# Altium footprint library Buck 18V D3 v2.PcbLib: 1 footprints
Each footprint in its own frame and in the unit in brackets; x right, y up, seen from the top. Pads: shape width x height; smd on the part's side, far side on the other; paste and mask are expansions set on the pad; w line width, h text height; cw(c..) or ccw(c..) is an arc to the next point about the centre after c.
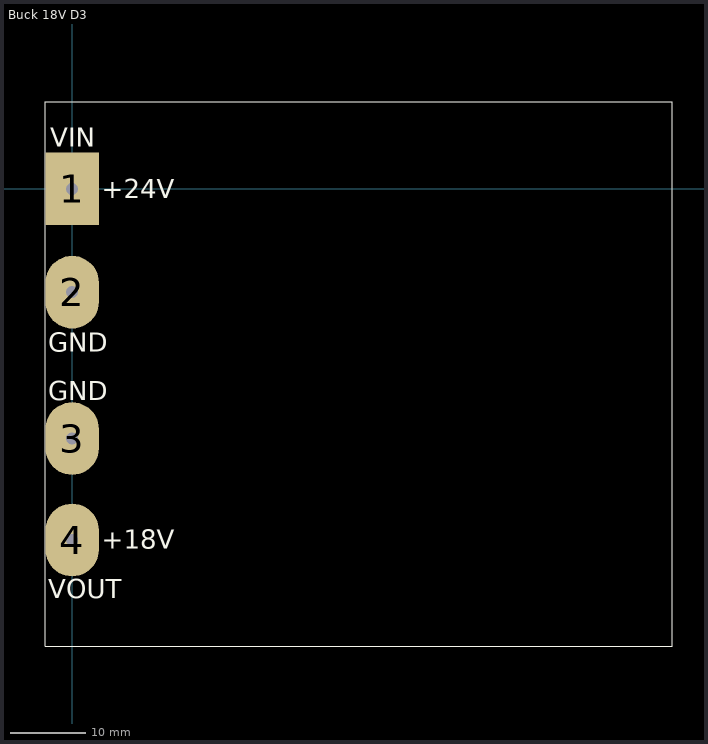
[diagram p0: the footprint, top view; thin cyan lines are the x and y axes]

## Buck 18V D3 [mil] "Buck 18V D3"
height 500
pads (4):
  rect 280x380 hole 63: 1(0,0)
  oval 280x380 hole 63: 2(0,-540) 3(0,-1305) 4(0,-1835)
Top Overlay:
  lines w5: -140,-2390 -140,455 3135,455 3135,-2390 -140,-2390
  text "GND" at -125,-850 h100
  text "GND" at -125,-1105 h100
  text "VOUT" at -125,-2140 h100
  text "+18V" at 155,-1880 h100
  text "+24V" at 155,-50 h100
  text "VIN" at -115,220 h100
3D body: height 191, standoff 190, extent -130,-1110 -55,-1000
3D body: height 191, standoff 190, extent 70,-1110 145,-1000
3D body: height 191, standoff 190, extent -30,-1110 45,-1000
3D body: height 192, standoff 190, extent 345.01,-344.99 1190,-325
3D body: height 192, standoff 190, extent 345.01,-214.99 1190,-195
3D body: height 269, standoff 190, extent 350.01,-219.99 450.01,-209.99
3D body: height 269, standoff 190, extent 455.01,-219.99 555.01,-209.99
3D body: height 269, standoff 190, extent 560.01,-219.99 660.01,-209.99
3D body: height 269, standoff 190, extent 665.01,-219.99 765.01,-209.99
3D body: height 269, standoff 190, extent 770.01,-219.99 870.01,-209.99
3D body: height 269, standoff 190, extent 875.01,-219.99 975.01,-209.99
3D body: height 269, standoff 190, extent 980.01,-219.99 1080.01,-209.99
3D body: height 269, standoff 190, extent 1085,-220 1185,-210
3D body: height 520, standoff 190, extent 560,-760 685,-345
3D body: height 520, standoff 190, extent 560,-190 685,225
3D body: height 192, standoff 190, extent 835.11,35.03 1035,234.98
3D body: height 192, standoff 190, extent 835.11,-89.96 1035,109.98
3D body: height 192, standoff 190, extent 835.11,-214.97 1035,-15.03
3D body: height 192, standoff 190, extent 1110.12,-239.96 1310.01,-40.02
3D body: height 192, standoff 190, extent 1110.12,-489.96 1310.01,-290.02
3D body: height 192, standoff 190, extent 835.11,-774.97 1035,-575.03
3D body: height 192, standoff 190, extent 835.11,-649.96 1035,-450.02
3D body: height 192, standoff 190, extent 835.11,-524.97 1035,-325.02
3D body: height 192, standoff 190, extent 1255.06,-1404.98 1355,-1305.01
3D body: height 192, standoff 190, extent 1255.06,-1828.98 1355,-1729.01
3D body: height 200, standoff 190, extent 1185,-1430 1360,-1400
3D body: height 200, standoff 190, extent 1365,-1430 1540,-1400
3D body: height 200, standoff 190, extent 1185,-1750 1360,-1720
3D body: height 200, standoff 190, extent 1365,-1750 1540,-1720
3D body: height 200, standoff 190, extent 2600,-1040 2800,-1010
3D body: height 200, standoff 190, extent 2610,-540 2810,-510
3D body: height 225, standoff 190, extent 1625,-1110 1635,-1060.01
3D body: height 225, standoff 190, extent 1564.99,-1110 1574.99,-1060.01
3D body: height 225, standoff 190, extent 1574.99,-1110 1625,-1060.01
3D body: height 225, standoff 190, extent 1625,-1020 1635,-970.01
3D body: height 225, standoff 190, extent 1564.99,-1020 1574.99,-970.01
3D body: height 225, standoff 190, extent 1574.99,-1020 1625,-970.01
3D body: height 225, standoff 190, extent 1980,-1360 1990,-1310.01
3D body: height 225, standoff 190, extent 1919.99,-1360 1929.99,-1310.01
3D body: height 225, standoff 190, extent 1929.99,-1360 1980,-1310.01
3D body: height 225, standoff 190, extent 1980,-1295 1990,-1245.01
3D body: height 225, standoff 190, extent 1919.99,-1295 1929.99,-1245.01
3D body: height 225, standoff 190, extent 1929.99,-1295 1980,-1245.01
3D body: height 225, standoff 190, extent 1980,-1160 1990,-1110.01
3D body: height 225, standoff 190, extent 1919.99,-1160 1929.99,-1110.01
3D body: height 225, standoff 190, extent 1929.99,-1160 1980,-1110.01
3D body: height 225, standoff 190, extent 1700,-1195 1749.99,-1185
3D body: height 225, standoff 190, extent 1700,-1134.99 1749.99,-1124.99
3D body: height 225, standoff 190, extent 1700,-1185 1749.99,-1134.99
3D body: height 225, standoff 190, extent 1925,-815 1974.99,-805
3D body: height 225, standoff 190, extent 1925,-754.99 1974.99,-744.99
3D body: height 225, standoff 190, extent 1925,-805 1974.99,-754.99
3D body: height 225, standoff 190, extent 1750,-769.99 1760,-720
3D body: height 225, standoff 190, extent 1810.01,-769.99 1820.01,-720
3D body: height 225, standoff 190, extent 1760,-769.99 1810.01,-720
3D body: height 200, standoff 190, extent 1715,-845 1725,-814.99
3D body: height 200, standoff 190, extent 1735,-845 1745,-814.99
3D body: height 200, standoff 190, extent 1755,-845 1765,-814.99
3D body: height 200, standoff 190, extent 1775,-845 1785,-814.99
3D body: height 200, standoff 190, extent 1795,-845 1805,-814.99
3D body: height 200, standoff 190, extent 1815,-845 1825,-814.99
3D body: height 200, standoff 190, extent 1835,-845 1845,-814.99
3D body: height 200, standoff 190, extent 1855,-845 1865,-814.99
3D body: height 200, standoff 190, extent 1875,-845 1885,-814.99
3D body: height 200, standoff 190, extent 1895,-845 1905,-814.99
3D body: height 200, standoff 190, extent 1895,-1065 1905,-1034.99
3D body: height 200, standoff 190, extent 1875,-1065 1885,-1034.99
3D body: height 200, standoff 190, extent 1855,-1065 1865,-1034.99
3D body: height 200, standoff 190, extent 1835,-1065 1845,-1034.99
3D body: height 200, standoff 190, extent 1815,-1065 1825,-1034.99
3D body: height 200, standoff 190, extent 1795,-1065 1805,-1034.99
3D body: height 200, standoff 190, extent 1775,-1065 1785,-1034.99
3D body: height 200, standoff 190, extent 1755,-1065 1765,-1034.99
3D body: height 200, standoff 190, extent 1735,-1065 1745,-1034.99
3D body: height 200, standoff 190, extent 1715,-1065 1725,-1034.99
3D body: height 191, standoff 190, extent 1763.76,-647.5 1846.26,-572.5
3D body: height 191, standoff 190, extent 1763.76,-437.5 1846.26,-362.5
3D body: height 191, standoff 190, extent 1953.76,-272.5 2036.25,-197.5
3D body: height 191, standoff 190, extent 1953.76,-62.5 2036.25,12.5
3D body: height 191, standoff 190, extent 2233.76,-1412.5 2316.25,-1337.5
3D body: height 191, standoff 190, extent 2233.76,-1062.5 2316.25,-987.5
3D body: height 191, standoff 190, extent 2233.76,-1287.5 2316.25,-1212.5
3D body: height 191, standoff 190, extent 2233.76,-1187.5 2316.25,-1112.5
3D body: height 191, standoff 190, extent 2108.76,-1237.5 2191.25,-1162.5
3D body: height 191, standoff 190, extent 2008.76,-1237.5 2091.25,-1162.5
3D body: height 191, standoff 190, extent 1558.76,-937.5 1641.25,-862.5
3D body: height 191, standoff 190, extent 1558.76,-812.5 1641.25,-737.5
3D body "Led 3mm vert.STEP": height 340.51, standoff 214, extent 1005.94,-1429.85 1300,-1300
3D body "RESISTOR 0.25W 0.4.STEP": height 405.5, standoff 190, extent 1259.5,-1779 1350.5,-1355
3D body: height 352, standoff 350, extent 1865.09,-344.97 2015,-195.01
3D body: height 200, standoff 190, extent 1805,-415 1845,-385
3D body: height 200, standoff 190, extent 1805,-625 1845,-595
3D body: height 200, standoff 190, extent 1955,-250 1995,-220
3D body: height 200, standoff 190, extent 1955,-40 1995,-10
3D body: height 200, standoff 190, extent 2145,-605 2175,-405
3D body: height 200, standoff 190, extent 1625,-230 1655,-30
3D body: height 140, standoff 133, extent -5,-1890 85,-1800
3D body: height 135, standoff 65, extent -49.9,-1934.97 130,-1755.02
3D body: height 140, standoff 133, extent -45,-1350 45,-1260
3D body: height 135, standoff 65, extent -89.9,-1394.97 90,-1215.02
3D body: height 62, standoff 0, extent -100,-1405 100,-1205
3D body: height 220, standoff -180, extent -42,-1347 42,-1263
3D body: height 140, standoff 133, extent -5,-595 85,-505
3D body: height 135, standoff 65, extent -49.9,-639.97 130,-460.02
3D body: height 62, standoff 0, extent -100,-100 100,100
3D body: height 222, standoff -178, extent -41.99,-41.99 42.01,42.01
3D body: height 62, standoff 0, extent -100,-100 100,100
3D body: height 125, standoff 63, extent -100,-100 100,100
3D body: height 130, standoff 30, extent 2760,-2365 3110,-2015
3D body: height 130, standoff 30, extent 2760,85 3110,435
3D body: height 410, standoff 360, extent 1185,-165 1360,-115
3D body: height 360, standoff 190, extent 1185,-165 1235,-115
3D body: height 410, standoff 360, extent 210,-450 960,-400
3D body: height 410, standoff 360, extent 210,-700 960,-650
3D body: height 315, standoff 190, extent 260,-700 435,-400
3D body: height 245, standoff 190, extent 435,-700 560,-400
3D body: height 245, standoff 190, extent 435,-140 560,160
3D body: height 360, standoff 190, extent 910,110 960,160
3D body: height 410, standoff 360, extent 210,-140 960,-90
3D body: height 410, standoff 360, extent 210,110 960,160
3D body: height 410, standoff 360, extent 210,-15 960,35
3D body: height 315, standoff 175, extent 260,-140 435,160
3D body: height 525, standoff 520, extent 560,-765 685,-345
3D body: height 525, standoff 520, extent 560,-190 685,225
3D body: height 350, standoff 295, extent 1760,-465 2060,-65
3D body: height 475, standoff 295, extent 1360,-465 1760,-65
3D body: height 290, standoff 190, extent 1845,-655 2145,-355
3D body: height 290, standoff 190, extent 1655,-280 1955,20
3D body: height 215, standoff 190, extent 1710,-1040 1910,-840
3D body: height 310, standoff 190, extent 1185,-1720 1360,-1430
3D body: height 311, standoff 309, extent 1185,-1665 1360,-1635
3D body: height 310, standoff 190, extent 1365,-1720 1540,-1430
3D body: height 311, standoff 309, extent 1365,-1665 1540,-1635
3D body: height 509, standoff 504, extent 2517.21,-962.94 2893,-587.05
3D body: height 505, standoff 190, extent 2470,-1010 2940,-540
3D body: height 185, standoff 130, extent -140,-2390 3135,455
3D body: height 260, standoff 190, extent -89.89,-89.97 90.01,89.98
3D body: height 265, standoff 258, extent -45,-45 45,45
3D body: height 269, standoff 190, extent 1085,-330 1185,-320
3D body: height 269, standoff 190, extent 1085,-320 1185,-220
3D body: height 186, standoff 185, extent -140,-235 1540,235
3D body: height 186, standoff 185, extent -140,-775 1540,-305
3D body: height 186, standoff 185, extent -140,-1540 1540,-1070
3D body: height 186, standoff 185, extent -140,-2070 1540,-1600
3D body: height 186, standoff 185, extent 2345,-2165 3060,-810
3D body: height 186, standoff 185, extent 2345,-730 3060,-330
3D body: height 191, standoff 190, extent -120,215 -40,325
3D body: height 191, standoff 190, extent -20,215 25,325
3D body: height 191, standoff 190, extent 65,215 140,325
3D body: height 191, standoff 190, extent -130,-2145 -50,-2035
3D body: height 191, standoff 190, extent -30,-2145 45,-2035
3D body: height 191, standoff 190, extent 70,-2145 145,-2035
3D body: height 191, standoff 190, extent 170,-2145 245,-2035
3D body: height 191, standoff 190, extent -30,-855 45,-745
3D body: height 191, standoff 190, extent 70,-855 145,-745
3D body: height 191, standoff 190, extent -130,-855 -55,-745
3D body: height 410, standoff 360, extent 210,-575 960,-525
3D body: height 360, standoff 190, extent 910,-15 960,35
3D body: height 360, standoff 190, extent 910,-140 960,-90
3D body: height 360, standoff 190, extent 910,-450 960,-400
3D body: height 360, standoff 190, extent 910,-575 960,-525
3D body: height 360, standoff 190, extent 910,-700 960,-650
3D body: height 269, standoff 190, extent 980.01,-319.99 1080.01,-219.99
3D body: height 269, standoff 190, extent 980.01,-329.99 1080.01,-319.99
3D body: height 269, standoff 190, extent 875.01,-319.99 975.01,-219.99
3D body: height 269, standoff 190, extent 875.01,-329.99 975.01,-319.99
3D body: height 269, standoff 190, extent 770.01,-319.99 870.01,-219.99
3D body: height 269, standoff 190, extent 770.01,-329.99 870.01,-319.99
3D body: height 269, standoff 190, extent 665.01,-319.99 765.01,-219.99
3D body: height 269, standoff 190, extent 665.01,-329.99 765.01,-319.99
3D body: height 269, standoff 190, extent 560.01,-319.99 660.01,-219.99
3D body: height 269, standoff 190, extent 560.01,-329.99 660.01,-319.99
3D body: height 269, standoff 190, extent 455.01,-319.99 555.01,-219.99
3D body: height 269, standoff 190, extent 455.01,-329.99 555.01,-319.99
3D body: height 269, standoff 190, extent 350.01,-319.99 450.01,-219.99
3D body: height 269, standoff 190, extent 350.01,-329.99 450.01,-319.99
3D body: height 265, standoff 258, extent -45.81,-585.65 44.19,-495.65
3D body: height 260, standoff 190, extent -90.71,-630.62 89.19,-450.67
3D body: height 125, standoff 63, extent -100.81,-640.65 99.19,-440.65
3D body: height 62, standoff 0, extent -100.81,-640.65 99.19,-440.65
3D body: height 220, standoff -180, extent -42.81,-582.64 41.19,-498.64
3D body: height 62, standoff 0, extent -100.81,-640.65 99.19,-440.65
3D body: height 265, standoff 258, extent -45,-1350 45,-1260
3D body: height 260, standoff 190, extent -89.89,-1394.97 90.01,-1215.02
3D body: height 125, standoff 63, extent -100,-1405 100,-1205
3D body: height 62, standoff 0, extent -100,-1405 100,-1205
3D body: height 220, standoff -180, extent -42,-1347 42,-1263
3D body: height 62, standoff 0, extent -100,-1405 100,-1205
3D body: height 265, standoff 258, extent -45,-1880 45,-1790
3D body: height 260, standoff 190, extent -89.89,-1924.97 90.01,-1745.02
3D body: height 125, standoff 63, extent -100,-1935 100,-1735
3D body: height 62, standoff 0, extent -100,-1935 100,-1735
3D body: height 220, standoff -180, extent -42,-1876.99 42,-1792.99
3D body: height 62, standoff 0, extent -100,-1935 100,-1735
3D body: height 360, standoff 190, extent 1185,-415 1235,-365
3D body: height 410, standoff 360, extent 1185,-415 1360,-365